# Altium schematic symbol library EEEFPA221XAL.SchLib: 1 symbol
Pins are listed as number, name and electrical type; pins without a type are passive.

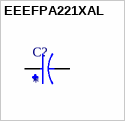
[diagram p0: symbol EEEFPA221XAL]

## EEEFPA221XAL
designator C?
Aluminum Electrolytic Capacitors - SMD 10VDC 220uF 20% 6x8mm AEC-Q200; MP: EEE-FPA221XAL; MF: Panasonic; Availability: In Stock; Price: None; Package: RADIAL-2 Panasonic; Value: *; SnapEDA_Link: https://www.snapeda.com/parts/EEE-FPA221XAL/Panasonic/view-part/6178333/?ref=snap; Check_prices: https://www.snapeda.com/parts/EEE-FPA221XAL/Panasonic/view-part/6178333/?ref=eda; Purchase-URL: https://pricing.snapeda.com/search/part/EEE-FPA221XAL/?ref=eda
footprint CAP_EEEFPA221XAL
pins: 1, 2